# EAGLE library part ACS711EX (library WallE_Motor_Board)
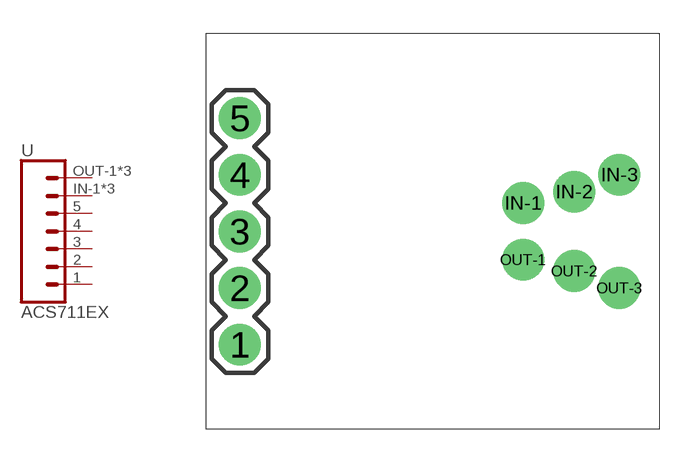
[diagram p0: symbol with the pads of ACS_CURRENT_SENSOR; footprint ACS_CURRENT_SENSOR]

Designator prefix -

## ACS711EX  [ACS_CURRENT_SENSOR]
1  1  pas
2  2  pas
3  3  pas
4  4  pas
5  5  pas
IN-1  6  pas
IN-2  6  pas
IN-3  6  pas
OUT-1  7  pas
OUT-2  7  pas
OUT-3  7  pas

## Footprint ACS_CURRENT_SENSOR (pad centres in mm)
Plated Through Hole - 5 Pin Specifications: Pin count:5 Pin pitch:0.1" Example device(s): CONN_05
drill 1.016 pad 1.88: 1 0,-10.16; 2 0,-7.62; 3 0,-5.08; 4 0,-2.54; 5 0,0; IN-1 12.7,-3.81; IN-2 14.986,-3.302; IN-3 17.018,-2.54; OUT-1 12.7,-6.35; OUT-2 14.986,-6.858; OUT-3 17.018,-7.62